# Altium schematic symbol library Fuel_Gauge.SchLib: 2 symbols
Pins are listed as number, name and electrical type; pins without a type are passive.

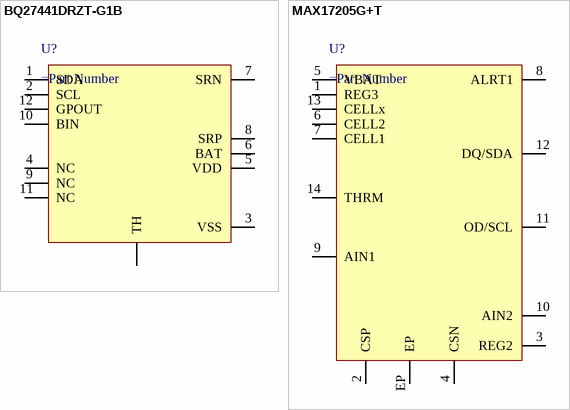
[diagram p0: symbols BQ27441DRZT-G1B to MAX17205G+T]

## BQ27441DRZT-G1B
designator U?
pins: 1 SDA, 2 SCL, 3 VSS, 4 NC, 5 VDD, 6 BAT, 7 SRN, 8 SRP, 9 NC, 10 BIN, 11 NC, 12 GPOUT, TH

## MAX17205G+T
designator U?
pins: 1 REG3, 2 CSP, 3 REG2, 4 CSN, 5 VBAT, 6 CELL2, 7 CELL1, 8 ALRT1, 9 AIN1, 10 AIN2, 11 OD/SCL, 12 DQ/SDA, 13 CELLx, 14 THRM, EP